# Altium schematic symbol library MODULES.SchLib: 5 symbols
Pins are listed as number, name and electrical type; pins without a type are passive.

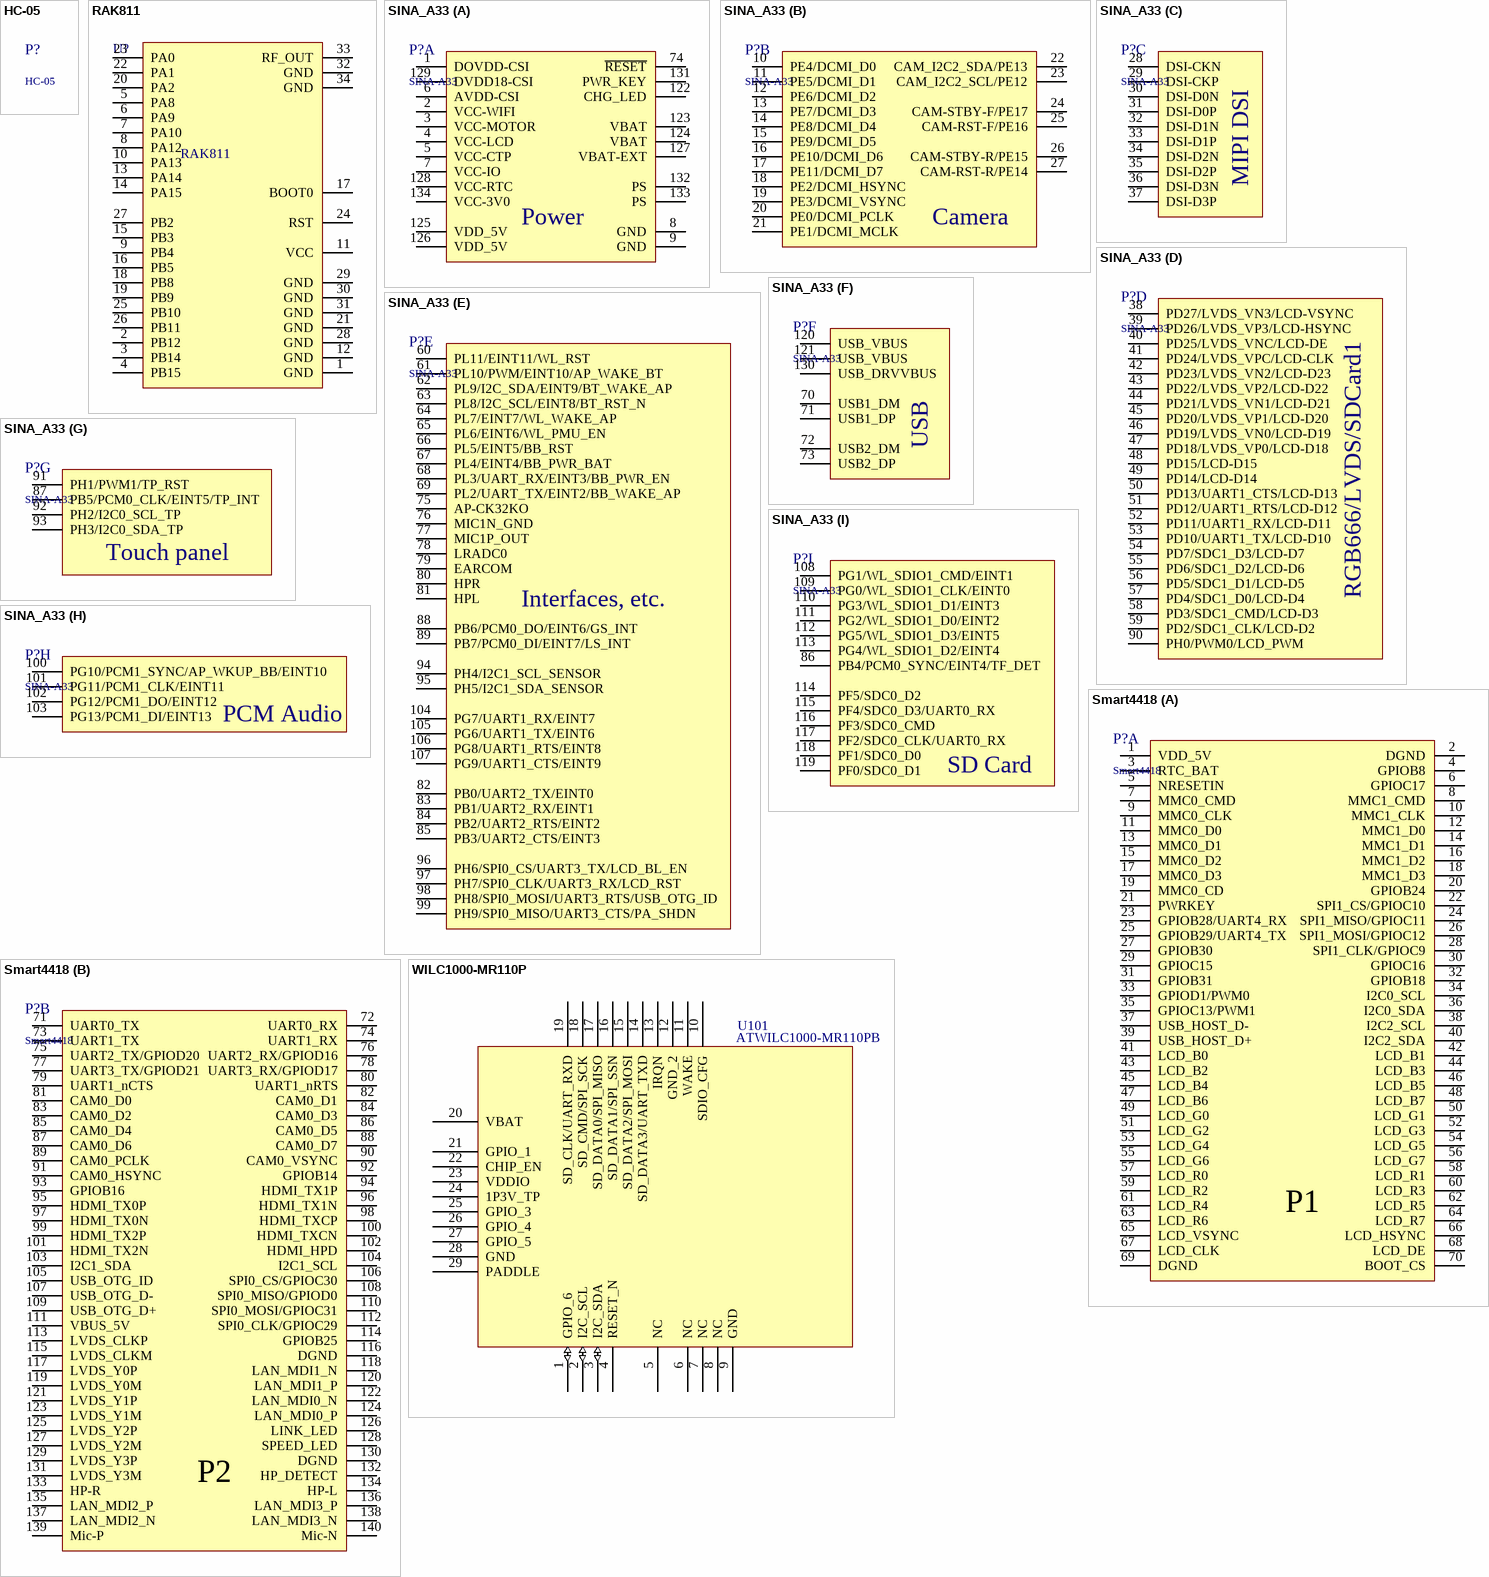
[diagram p0: symbols HC-05 to WILC1000-MR110P]

## HC-05
designator P?
Device: HC-05

## RAK811
designator U?
HelpURL: https://downloads.rakwireless.com/LoRa/RAK811/Hardware_Specification/RAK811_LoRa_Module_Datasheet_V1.4.pdf; Reference manual: https://github.com/RAKWireless/RAK811/blob/master/Software%20Development/RAK811%C2%A0Lora%C2%A0AT%C2%A0Command%C2%A0V1.4.pdf; Supplier: https://www.chipdip.ru/product1/8001783328
footprint LORA
pins: 1 GND, 2 PB12, 3 PB14, 4 PB15, 5 PA8, 6 PA9, 7 PA10, 8 PA12, 9 PB4, 10 PA13, 11 VCC, 12 GND, 13 PA14, 14 PA15, 15 PB3, 16 PB5, 17 BOOT0, 18 PB8, 19 PB9, 20 PA2, 21 GND, 22 PA1, 23 PA0, 24 RST, 25 PB10, 26 PB11, 27 PB2, 28 GND, 29 GND, 30 GND, 31 GND, 32 GND, 33 RF_OUT, 34 GND

## SINA_A33
designator P?, comment SINA-A33
Allwinner A33 module with RAM and Flash; Manufacturer: Sinlin; PMIC: AXP223; Device: SINA-A33; CPU: Allwinner A33
footprint SINA-A33 (Sinlin SBC)
part A pins: 1 DOVDD-CSI, 2 VCC-WIFI, 3 VCC-MOTOR, 4 VCC-LCD, 5 VCC-CTP, 6 AVDD-CSI, 7 VCC-IO, 8 GND, 9 GND, 74 ~{RESET}, 122 CHG_LED, 123 VBAT, 124 VBAT, 125 VDD_5V, 126 VDD_5V, 127 VBAT-EXT, 128 VCC-RTC, 129 DVDD18-CSI, 131 PWR_KEY, 132 PS, 133 PS, 134 VCC-3V0
part B pins: 10 PE4/DCMI_D0, 11 PE5/DCMI_D1, 12 PE6/DCMI_D2, 13 PE7/DCMI_D3, 14 PE8/DCMI_D4, 15 PE9/DCMI_D5, 16 PE10/DCMI_D6, 17 PE11/DCMI_D7, 18 PE2/DCMI_HSYNC, 19 PE3/DCMI_VSYNC, 20 PE0/DCMI_PCLK, 21 PE1/DCMI_MCLK, 22 CAM_I2C2_SDA/PE13, 23 CAM_I2C2_SCL/PE12, 24 CAM-STBY-F/PE17, 25 CAM-RST-F/PE16, 26 CAM-STBY-R/PE15, 27 CAM-RST-R/PE14
part C pins: 28 DSI-CKN, 29 DSI-CKP, 30 DSI-D0N, 31 DSI-D0P, 32 DSI-D1N, 33 DSI-D1P, 34 DSI-D2N, 35 DSI-D2P, 36 DSI-D3N, 37 DSI-D3P
part D pins: 38 PD27/LVDS_VN3/LCD-VSYNC, 39 PD26/LVDS_VP3/LCD-HSYNC, 40 PD25/LVDS_VNC/LCD-DE, 41 PD24/LVDS_VPC/LCD-CLK, 42 PD23/LVDS_VN2/LCD-D23, 43 PD22/LVDS_VP2/LCD-D22, 44 PD21/LVDS_VN1/LCD-D21, 45 PD20/LVDS_VP1/LCD-D20, 46 PD19/LVDS_VN0/LCD-D19, 47 PD18/LVDS_VP0/LCD-D18, 48 PD15/LCD-D15, 49 PD14/LCD-D14, 50 PD13/UART1_CTS/LCD-D13, 51 PD12/UART1_RTS/LCD-D12, 52 PD11/UART1_RX/LCD-D11, 53 PD10/UART1_TX/LCD-D10, 54 PD7/SDC1_D3/LCD-D7, 55 PD6/SDC1_D2/LCD-D6, 56 PD5/SDC1_D1/LCD-D5, 57 PD4/SDC1_D0/LCD-D4, 58 PD3/SDC1_CMD/LCD-D3, 59 PD2/SDC1_CLK/LCD-D2, 90 PH0/PWM0/LCD_PWM
part E pins: 60 PL11/EINT11/WL_RST, 61 PL10/PWM/EINT10/AP_WAKE_BT, 62 PL9/I2C_SDA/EINT9/BT_WAKE_AP, 63 PL8/I2C_SCL/EINT8/BT_RST_N, 64 PL7/EINT7/WL_WAKE_AP, 65 PL6/EINT6/WL_PMU_EN, 66 PL5/EINT5/BB_RST, 67 PL4/EINT4/BB_PWR_BAT, 68 PL3/UART_RX/EINT3/BB_PWR_EN, 69 PL2/UART_TX/EINT2/BB_WAKE_AP, 75 AP-CK32KO, 76 MIC1N_GND, 77 MIC1P_OUT, 78 LRADC0, 79 EARCOM, 80 HPR, 81 HPL, 82 PB0/UART2_TX/EINT0, 83 PB1/UART2_RX/EINT1, 84 PB2/UART2_RTS/EINT2, 85 PB3/UART2_CTS/EINT3, 88 PB6/PCM0_DO/EINT6/GS_INT, 89 PB7/PCM0_DI/EINT7/LS_INT, 94 PH4/I2C1_SCL_SENSOR, 95 PH5/I2C1_SDA_SENSOR, 96 PH6/SPI0_CS/UART3_TX/LCD_BL_EN, 97 PH7/SPI0_CLK/UART3_RX/LCD_RST, 98 PH8/SPI0_MOSI/UART3_RTS/USB_OTG_ID, 99 PH9/SPI0_MISO/UART3_CTS/PA_SHDN, 104 PG7/UART1_RX/EINT7, 105 PG6/UART1_TX/EINT6, 106 PG8/UART1_RTS/EINT8, 107 PG9/UART1_CTS/EINT9
part F pins: 70 USB1_DM, 71 USB1_DP, 72 USB2_DM, 73 USB2_DP, 120 USB_VBUS, 121 USB_VBUS, 130 USB_DRVVBUS
part G pins: 87 PB5/PCM0_CLK/EINT5/TP_INT, 91 PH1/PWM1/TP_RST, 92 PH2/I2C0_SCL_TP, 93 PH3/I2C0_SDA_TP
part H pins: 100 PG10/PCM1_SYNC/AP_WKUP_BB/EINT10, 101 PG11/PCM1_CLK/EINT11, 102 PG12/PCM1_DO/EINT12, 103 PG13/PCM1_DI/EINT13
part I pins: 86 PB4/PCM0_SYNC/EINT4/TF_DET, 108 PG1/WL_SDIO1_CMD/EINT1, 109 PG0/WL_SDIO1_CLK/EINT0, 110 PG3/WL_SDIO1_D1/EINT3, 111 PG2/WL_SDIO1_D0/EINT2, 112 PG5/WL_SDIO1_D3/EINT5, 113 PG4/WL_SDIO1_D2/EINT4, 114 PF5/SDC0_D2, 115 PF4/SDC0_D3/UART0_RX, 116 PF3/SDC0_CMD, 117 PF2/SDC0_CLK/UART0_RX, 118 PF1/SDC0_D0, 119 PF0/SDC0_D1
part A text: Power
part B text: Camera
part C text: MIPI DSI
part D text: RGB666/LVDS/SDCard1
part E text: Interfaces, etc.
part F text: USB
part G text: Touch panel
part H text: PCM Audio
part I text: SD Card

## Smart4418
designator P?
HelpURL: http://wiki.friendlyarm.com/wiki/index.php/Smart4418; Datasheet: http://wiki.friendlyarm.com/wiki/images/c/c2/Smart4418-1711-Schematic.pdf; Drawing: http://wiki.friendlyarm.com/wiki/images/d/df/Smart4418_6818-1711_drawing%28dxf%29.zip
footprint Smart4418
part A pins: 1 VDD_5V, 2 DGND, 3 RTC_BAT, 4 GPIOB8, 5 NRESETIN, 6 GPIOC17, 7 MMC0_CMD, 8 MMC1_CMD, 9 MMC0_CLK, 10 MMC1_CLK, 11 MMC0_D0, 12 MMC1_D0, 13 MMC0_D1, 14 MMC1_D1, 15 MMC0_D2, 16 MMC1_D2, 17 MMC0_D3, 18 MMC1_D3, 19 MMC0_CD, 20 GPIOB24, 21 PWRKEY, 22 SPI1_CS/GPIOC10, 23 GPIOB28/UART4_RX, 24 SPI1_MISO/GPIOC11, 25 GPIOB29/UART4_TX, 26 SPI1_MOSI/GPIOC12, 27 GPIOB30, 28 SPI1_CLK/GPIOC9, 29 GPIOC15, 30 GPIOC16, 31 GPIOB31, 32 GPIOB18, 33 GPIOD1/PWM0, 34 I2C0_SCL, 35 GPIOC13/PWM1, 36 I2C0_SDA, 37 USB_HOST_D-, 38 I2C2_SCL, 39 USB_HOST_D+, 40 I2C2_SDA, 41 LCD_B0, 42 LCD_B1, 43 LCD_B2, 44 LCD_B3, 45 LCD_B4, 46 LCD_B5, 47 LCD_B6, 48 LCD_B7, 49 LCD_G0, 50 LCD_G1, 51 LCD_G2, 52 LCD_G3, 53 LCD_G4, 54 LCD_G5, 55 LCD_G6, 56 LCD_G7, 57 LCD_R0, 58 LCD_R1, 59 LCD_R2, 60 LCD_R3, 61 LCD_R4, 62 LCD_R5, 63 LCD_R6, 64 LCD_R7, 65 LCD_VSYNC, 66 LCD_HSYNC, 67 LCD_CLK, 68 LCD_DE, 69 DGND, 70 BOOT_CS
part B pins: 71 UART0_TX, 72 UART0_RX, 73 UART1_TX, 74 UART1_RX, 75 UART2_TX/GPIOD20, 76 UART2_RX/GPIOD16, 77 UART3_TX/GPIOD21, 78 UART3_RX/GPIOD17, 79 UART1_nCTS, 80 UART1_nRTS, 81 CAM0_D0, 82 CAM0_D1, 83 CAM0_D2, 84 CAM0_D3, 85 CAM0_D4, 86 CAM0_D5, 87 CAM0_D6, 88 CAM0_D7, 89 CAM0_PCLK, 90 CAM0_VSYNC, 91 CAM0_HSYNC, 92 GPIOB14, 93 GPIOB16, 94 HDMI_TX1P, 95 HDMI_TX0P, 96 HDMI_TX1N, 97 HDMI_TX0N, 98 HDMI_TXCP, 99 HDMI_TX2P, 100 HDMI_TXCN, 101 HDMI_TX2N, 102 HDMI_HPD, 103 I2C1_SDA, 104 I2C1_SCL, 105 USB_OTG_ID, 106 SPI0_CS/GPIOC30, 107 USB_OTG_D-, 108 SPI0_MISO/GPIOD0, 109 USB_OTG_D+, 110 SPI0_MOSI/GPIOC31, 111 VBUS_5V, 112 SPI0_CLK/GPIOC29, 113 LVDS_CLKP, 114 GPIOB25, 115 LVDS_CLKM, 116 DGND, 117 LVDS_Y0P, 118 LAN_MDI1_N, 119 LVDS_Y0M, 120 LAN_MDI1_P, 121 LVDS_Y1P, 122 LAN_MDI0_N, 123 LVDS_Y1M, 124 LAN_MDI0_P, 125 LVDS_Y2P, 126 LINK_LED, 127 LVDS_Y2M, 128 SPEED_LED, 129 LVDS_Y3P, 130 DGND, 131 LVDS_Y3M, 132 HP_DETECT, 133 HP-R, 134 HP-L, 135 LAN_MDI2_P, 136 LAN_MDI3_P, 137 LAN_MDI2_N, 138 LAN_MDI3_N, 139 Mic-P, 140 Mic-N
part A text: P1
part B text: P2

## WILC1000-MR110P
designator U101, comment value ATWILC1000-MR110PB  (hidden comment: WILC1000 module)
ATWILC1000-MR110PB; PartGroup: Integrated Circuits,Modules,Radio Module WiFi; Manufacturer: ATMEL; AN: A06-1348; TemperatureRange: -40Â°C to 85Â°C; ComponentStatus: 'Active (verified)'; Status: New; Verified by: *; Design Comment: *; Height: 3.40000009536743; MPN: ATWILC1000-MR110PB; FootprintStatus: 'Active (Verified)'
footprint AP9-00127
pins: 1 GPIO_6 (io), 2 I2C_SCL (io), 3 I2C_SDA (io), 4 RESET_N (oc), 5 NC (hiz), 6 NC (hiz), 7 NC (hiz), 8 NC (hiz), 9 GND (power), 10 SDIO_CFG (power), 11 WAKE (power), 12 GND_2 (power), 13 IRQN (power), 14 SD_DATA3/UART_TXD (power), 15 SD_DATA2/SPI_MOSI (power), 16 SD_DATA1/SPI_SSN (power), 17 SD_DATA0/SPI_MISO (power), 18 SD_CMD/SPI_SCK (power), 19 SD_CLK/UART_RXD (power), 20 VBAT (power), 21 GPIO_1 (power), 22 CHIP_EN (power), 23 VDDIO (power), 24 1P3V_TP (power), 25 GPIO_3 (power), 26 GPIO_4 (power), 27 GPIO_5 (power), 28 GND (power), 29 PADDLE (power)